# EAGLE library part 20020110-?A0* (library volks73-FCI)
8-Pole Terminal Block Right Angle Header 0.200" (5.08mm) Pitch Documentation Drawing <http://portal.fciconnect.com/Comergent//fci/drawing/20020110.pdf>
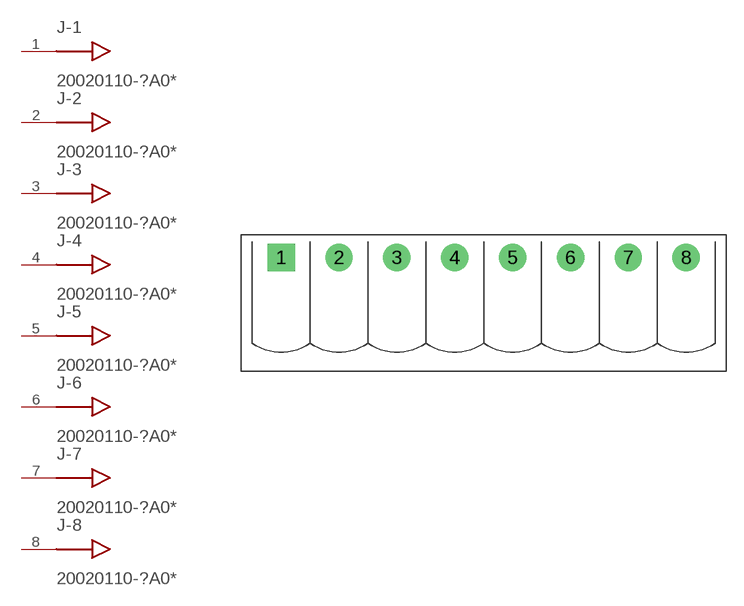
[diagram p3: symbol with the pads of 20020110-H08; footprint 20020110-H08]

Designator prefix J; gates -1=MALE_CONNECTOR -2=MALE_CONNECTOR -3=MALE_CONNECTOR -4=MALE_CONNECTOR -5=MALE_CONNECTOR -6=MALE_CONNECTOR -7=MALE_CONNECTOR -8=MALE_CONNECTOR

## 20020110-H08A01LF (CATEGORY: Connectors, Interconnects; COLOR: Green; CONTACT_MATING_FINISH: Tin; CURRENT-IEC: -; CURRENT-UL: 12A; DESCRIPTION: TERM BLOCK HDR 8POS R/A 5.08MM; DOCUMENTATION_LINK: <a href="http://portal.fciconnect.com/Comergent//fci/drawing/20020110.pdf">Drawing</a>; DOCUMENTATION_URL: http://portal.fciconnect.com/Comergent//fci/drawing/20020110.pdf; FAMILY: Terminal Blocks - Headers, Plugs and Sockets; FEATURES: -; HEADER_ORIENTATION: 90°, Right Angle; MANUFACTURER: FCI; MOUNTING_TYPE: Through Hole; NUMBER_OF_LEVELS: 1; NUMBER_OF_POSITIONS: 8; OPERATING_TEMPERATURE: -40°C ~ 115°C; PART_NUMBER: 20020110-H081A01LF; PITCH: 0.200" (5.08mm); PLUG_WIRE_ENTRY: -; POSITIONS_PER_LEVEL: 8; SERIES: 06-508; SUPPLIER_ITEM_LINK: <a href="http://www.digikey.com/product-detail/en/20020110-H081A01LF/609-3913-ND/2261306">Details</a>; SUPPLIER_ITEM_NUMBER: 609-3913-ND; SUPPLIER_ITEM_URL: http://www.digikey.com/product-detail/en/20020110-H081A01LF/609-3913-ND/2261306; SUPPLIER_LINK: <a href="http://www.digikey.com">Home Page</a>; SUPPLIER_NAME: Digi-Key; SUPPLIER_URL: http://www.digikey.com; TERMINATION_STYLE: Solder; TYPE: Header, Male Pins, Shrouded (4 Side); VOLTAGE-IEC: -; VOLTAGE-UL: 300V; WIRE_GAUGE_OR_RANGE-AWG: -; WIRE_GAUGE_OR_RANGE-MM2: -)  [20020110-H08]
1  -1:P$1
2  -2:P$1
3  -3:P$1
4  -4:P$1
5  -5:P$1
6  -6:P$1
7  -7:P$1
8  -8:P$1

## Footprint 20020110-H08 (pad centres in mm)
drill 1.6 square: 1 -17.78,-2.007
drill 1.6: 2 -12.7,-2.007; 3 -7.62,-2.007; 4 -2.54,-2.007; 5 2.54,-2.007; 6 7.62,-2.007; 7 12.7,-2.007; 8 17.78,-2.007